# EAGLE library part 418127160905 (library Wurth_Elektronik_Electromechanic_Switch_rev15d)
WS-IC-2.54 mm small compact THT Dip Switch with top tape, 10 pins, 5 poles SPECIFICATION Contact Rating Switching : 25mA, 24VDC Non-Switching : 100mA, 50VDC Contact Resistance Initial: 50mΩ max. After life test : 100mΩ max. Insulation Resistance : min. 100MΩ at 500VDC Dielectric Strength : 500VAC for 1 minute Operation Force : 600g max. Mechanical Life : 2000 cycles Electrical Life : 2000 cycles / 25mA, 24VDC Flat Actuator with top tape sealed <http://katalog.we-online.de/media/thumbs2/eican/thb_WS_IC_4181271609xx_pf2.jpg> Details see: http://katalog.we-online.de/en/em/418_127_160_9xx Created on 2015-06-24 2015 (C) Wurth Elektronik
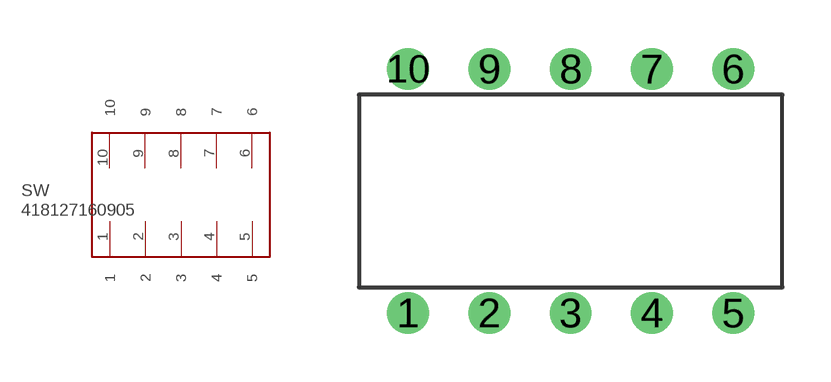
[diagram p51: symbol with the pads of 418127160905; footprint 418127160905]

Designator prefix SW

## 418127160905  [418127160905]
1  1
2  2
3  3
4  4
5  5
6  6
7  7
8  8
9  9
10  10

## Footprint 418127160905 (pad centres in mm)
WS-IC-2.54 mm small compact THT Dip Switch with top tape,10 pins,5 poles
drill 0.8: 1 -5.08,-3.81; 2 -2.54,-3.81; 3 0,-3.81; 4 2.54,-3.81; 5 5.08,-3.81; 6 5.08,3.81; 7 2.54,3.81; 8 0,3.81; 9 -2.54,3.81; 10 -5.08,3.81